# Altium footprint library TAUV-Lib.PcbLib: 56 footprints (part 1 of 4)
Each footprint in its own frame and in the unit in brackets; x right, y up, seen from the top. Pads: shape width x height; smd on the part's side, far side on the other; paste and mask are expansions set on the pad; w line width, h text height; cw(c..) or ccw(c..) is an arc to the next point about the centre after c.
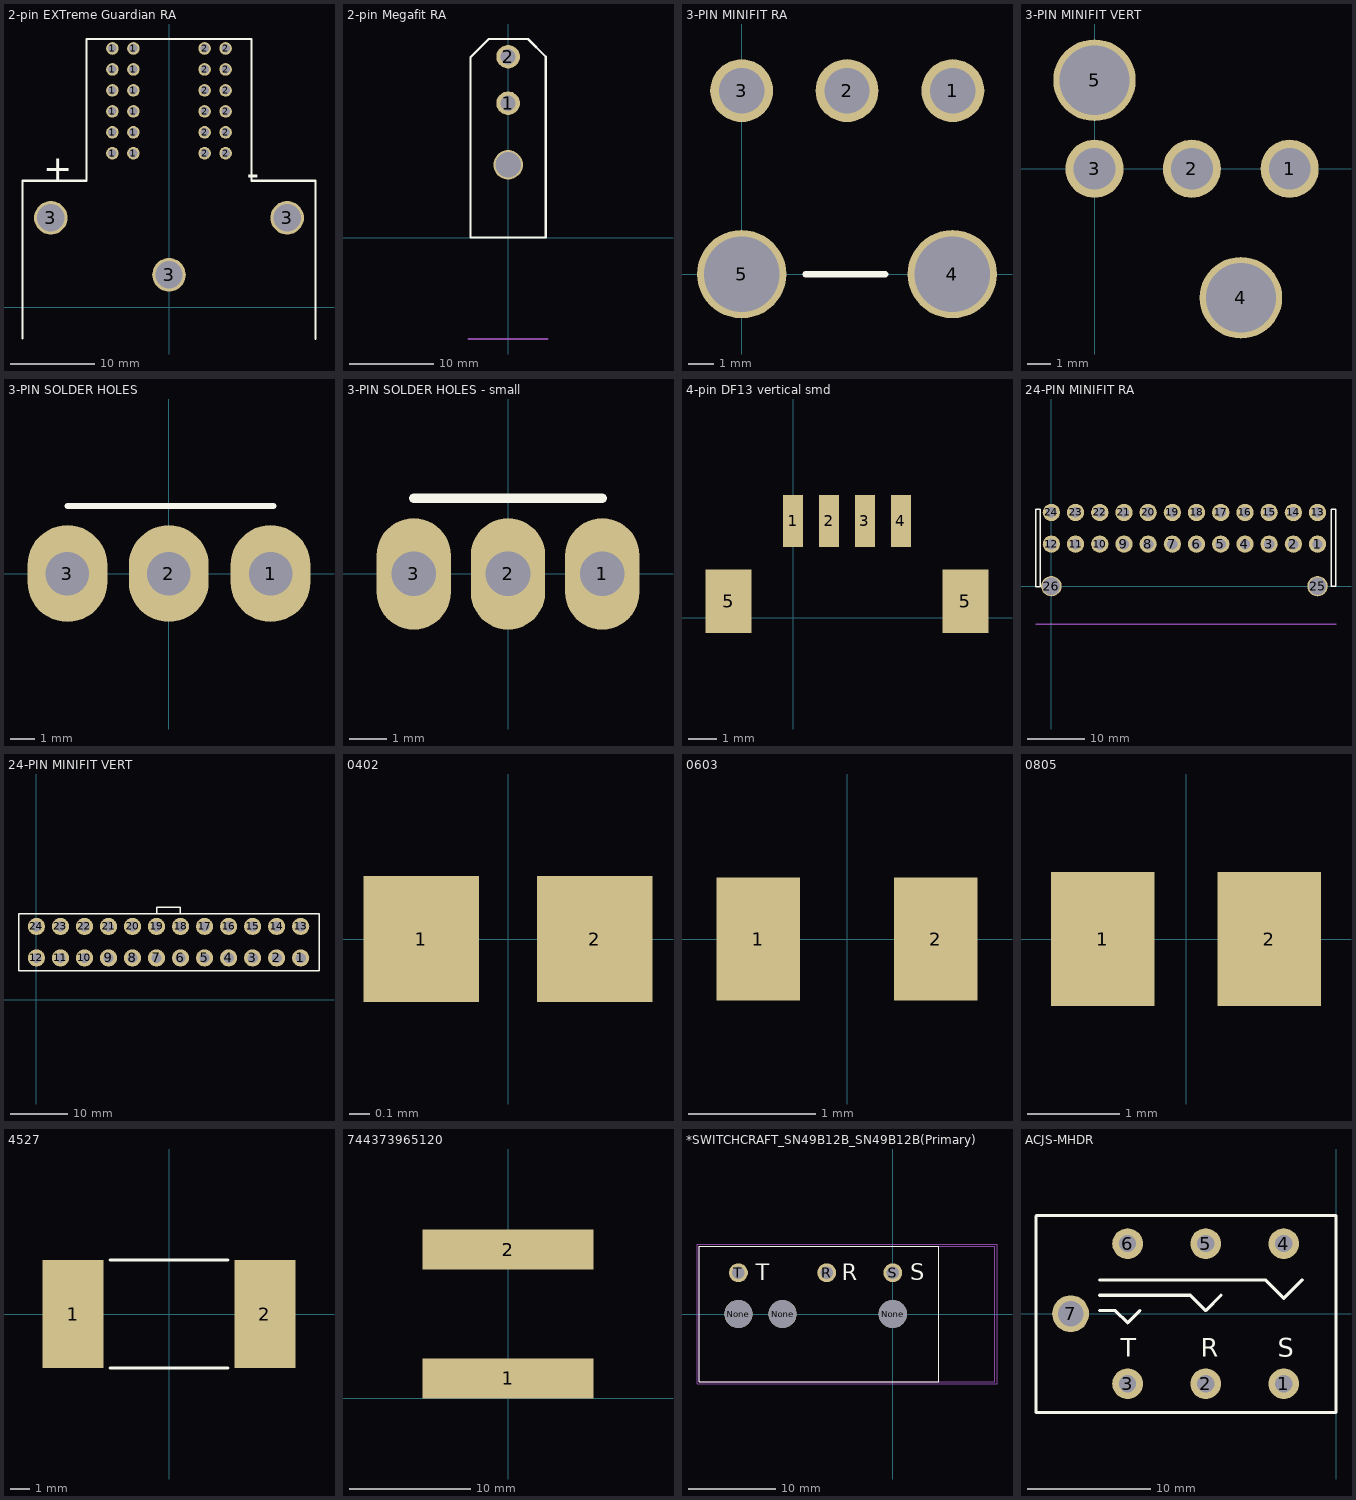
[diagram p0: the footprints below, top view; thin cyan lines are the x and y axes]

## 2-pin EXTreme Guardian RA [mm]
pads (27):
  round 1.5 hole 1.02: 1(-6.75,18.4) 1(-6.75,20.9) 1(-4.25,18.4) 1(-4.25,20.9) 2(4.25,18.4) 2(4.25,20.9) 2(6.75,18.4) 2(6.75,20.9)
  round 1.5 hole 1.02 unplated: 1(-6.75,23.4) 1(-6.75,25.9) 1(-6.75,28.4) 1(-6.75,30.9) 1(-4.25,23.4) 1(-4.25,25.9) 1(-4.25,28.4) 1(-4.25,30.9) 2(4.25,23.4) 2(4.25,25.9) 2(4.25,28.4) 2(4.25,30.9) 2(6.75,23.4) 2(6.75,25.9) 2(6.75,28.4) 2(6.75,30.9)
  round 4 hole 3.25 unplated: 3(-14.1,10.7) 3(0,3.9) 3(14.1,10.7)
Top Overlay:
  lines w0.254: -17.475,-3.708 -17.475,0 -17.475,15.12 -9.85,15.12 -9.85,32.03 9.85,32.03 9.85,15.12 17.475,15.12 17.475,0 17.475,-3.759
  text "+" at -14.989,15.12 h3.05
  text "-" at 9.25,14.5 h3.05
3D body "468171002.stp": height 27.6, standoff -4.06, extent -17.226,-3.8 17.226,31.413

## 2-pin Megafit RA [mm]
pads (3):
  round 2.8 hole 1.8: 1(0,15.9) 2(0,21.4)
  round 3.5 hole 3: ""(0,8.6)
Top Overlay:
  lines w0.254: -4.445,0 4.445,0 4.445,21.4 2.35,23.495 0,23.495 -2.286,23.495 -4.445,21.336 -4.445,0
Mechanical 15:
  lines w0.254: -4.699,-12 4.67,-12
3D body: height 2.06, standoff 0, extent -1.778,12.446 -1.778,12.446
3D body "1716920102.stp": height 16.75, standoff -0.41, extent -4.159,-24.983 4.191,-0.059
3D body "1720640002.stp": height 14.55, standoff -3.58, extent -4.158,-0.059 4.191,21.903

## 3-PIN MINIFIT RA [mm]
pads (5):
  round 2.5 hole 1.8 unplated: 1(8.4,7.3) 2(4.191,7.3) 3(0,7.3)
  oval 3.55x3.5 hole 3 unplated: 4(8.382,0) 5(0,0)
Top Overlay:
  lines w0.254: 2.54,0 5.715,0
3D body "039014031.stp": height 10, standoff -0.2, extent -2.709,-26.776 11.091,-6.176
3D body: height 8.9, standoff -10.7, extent 29.337,-1.905 29.337,-1.905
3D body: height 8.9, standoff -10.7, extent 29.337,-1.905 29.337,-1.905
3D body "039303038.stp": height 7.2, standoff -3.5, extent -2.709,-6.176 11.091,7.874

## 3-PIN MINIFIT VERT [mm]
pads (5):
  round 2.5 hole 1.8 unplated: 1(8.4,0) 2(4.191,0) 3(0,0)
  oval 3.55x3.5 hole 3 unplated: 4(6.3,-5.55) 5(0,3.81)
3D body "039301039.stp": height 12.45, standoff -3.5, extent -2.709,-6.541 11.091,5.017
3D body "039014031.stp": height 32, standoff 11.4, extent -2.709,-4.462 11.091,5.738

## 3-PIN SOLDER HOLES [mm]
pads (3):
  oval 3.3x4 hole 1.8 unplated: 1(4.209,0) 2(0,0) 3(-4.191,0)
Top Overlay:
  lines w0.254: -4.191,2.794 4.318,2.794

## 3-PIN SOLDER HOLES - small [mm]
pads (3):
  oval 2x3 hole 1.2 unplated: 1(2.54,0) 2(0,0) 3(-2.54,0)
Top Overlay:
  lines w0.254: -2.54,2.032 2.54,2.032

## 4-pin DF13 vertical smd [mm]
pads (6):
  rect 0.7x1.8 smd: 1(0,3.37) 2(1.25,3.37) 3(2.5,3.37) 4(3.75,3.37)
  rect 1.6x2.2 smd: 5(-2.25,0.57) 5(6,0.57)
3D body "DF13C-4P-1.25V.stp": height 4.82, standoff 0.02, extent -2.92,-1.09 6.73,3.81

## 24-PIN MINIFIT RA [mm]
pads (26):
  round 3 hole 1.8 unplated: 1(46.2,7.3) 2(42,7.3) 3(37.8,7.3) 4(33.6,7.3) 5(29.4,7.3) 6(25.2,7.3) 7(21,7.3) 8(16.8,7.3) 9(12.6,7.3) 10(8.4,7.3) 11(4.2,7.3) 12(0,7.3) 13(46.2,12.8) 14(42,12.8) 15(37.8,12.8) 16(33.6,12.8) 17(29.4,12.8) 18(25.2,12.8) 19(21,12.8) 20(16.8,12.8) 21(12.6,12.8) 22(8.4,12.8) 23(4.2,12.8) 24(0,12.8)
  oval 3.55x3.5 hole 3 unplated: 25(46.2,0) 26(0,0)
Top Overlay:
  lines w0.254: -2.667,-0.059 -2.667,13.335 -1.902,13.335 -1.902,-0.059 -2.667,-0.059 ; 48.576,-0.005 49.341,-0.005 49.341,13.388 48.576,13.388 48.576,-0.005
Mechanical 7:
  lines w0.254: -2.667,-6.604 49.403,-6.604
3D body "039012245.stp": height 14.1, standoff -0.3, extent -2.501,-26.164 49.099,-6.564
3D body "039300240.stp": height 11.4, standoff -3.6, extent -2.672,-6.559 49.328,13.376

## 24-PIN MINIFIT VERT [mm]
pads (24):
  round 3 hole 1.8 unplated: 1(46.2,7.3) 2(42,7.3) 3(37.8,7.3) 4(33.6,7.3) 5(29.4,7.3) 6(25.2,7.3) 7(21,7.3) 8(16.8,7.3) 9(12.6,7.3) 10(8.4,7.3) 11(4.2,7.3) 12(0,7.3) 13(46.2,12.8) 14(42,12.8) 15(37.8,12.8) 16(33.6,12.8) 17(29.4,12.8) 18(25.2,12.8) 19(21,12.8) 20(16.8,12.8) 21(12.6,12.8) 22(8.4,12.8) 23(4.2,12.8) 24(0,12.8)
Top Overlay:
  lines w0.254: 21,14.986 21,16.129 25.146,16.129 25.146,14.986 ; -3.048,5.08 49.403,5.08 49.403,14.986 -3.048,14.986 -3.048,5.08
3D body "039281243.stp": height 12.8, standoff -3.5, extent -2.959,5.106 49.441,16.106
3D body "039012245.stp": height 32.7, standoff 13.1, extent -2.559,4.106 49.041,18.506

## 0402 [mil]
pads (2):
  rect 22x24 smd: 1(-16.5,0) 2(16.5,0)
3D body: height 10, standoff 0, extent 0,0 10,10

## 0603 [mil]
pads (2):
  rect 26x38 smd: 1(-27.5,0) 2(27.5,0)
3D body: height 10, standoff 0, extent 0,0 10,10

## 0805 [mil]
pads (2):
  rect 44x57 smd: 1(-35.5,0) 2(35.5,0)
3D body: height 10, standoff 0, extent 0,0 10,10

## 4527 [mil]
pads (2):
  rect 124x220 smd: 1(-195.5,0) 2(195.5,0)
Top Overlay:
  lines w6: -120.4,-110 120.4,-110 ; -120.4,110 120.4,110
3D body: height 10, standoff 0, extent 0,0 10,10

## 744373965120 [mm]
pads (2):
  rect 14.1x3.3 smd paste+0 mask+0: 1(0,1.65) 2(0,12.25)
3D body "STEP-WE-XHMI-1510-rev1.stp": height 10, standoff 0, extent -8.2,-0.7 8.2,14.7

## *SWITCHCRAFT_SN49B12B_SN49B12B(Primary) [mil]
pads (6):
  round 128 hole 128 unplated: None(-700,0) None(-500,0) None(0,0)
  round 85.5 hole 57: R(-300,187) S(0,187) T(-700,187)
Top Overlay:
  lines w5: -878,-307.5 -878,307.5 208,307.5 208,-307.5 -878,-307.5
  text "T" at -621.26,153.15 h73.82
  text "R" at -231.1,153.15 h73.82
  text "S" at 78.74,153.15 h73.82
Mechanical 4:
  lines w5: -878,-307.5 208,-307.5 ; -878,-307.5 -878,307.5 ; -878,-307.5 208,-307.5 ; -878,-307.5 -878,307.5 ; -878,307.5 208,307.5 ; -878,307.5 208,307.5 ; 208,-307.5 462,-307.5 ; 208,-307.5 208,307.5 ; 208,-307.5 462,-307.5 ; 208,-307.5 208,307.5 ; 208,307.5 462,307.5 ; 208,307.5 462,307.5 ; 462,-307.5 462,307.5 ; 462,-307.5 462,307.5
  text "T" at -621.26,153.15 h73.82
  text "R" at -231.1,153.15 h73.82
  text "S" at 78.74,153.15 h73.82
  text "T" at -621.26,153.15 h73.82
  text "R" at -231.1,153.15 h73.82
  text "S" at 78.74,153.15 h73.82
Mechanical 16:
  lines w1.97: -887.84,-317.34 472.44,-317.34 472.44,317.34 -887.84,317.34 -887.84,-317.34

## ACJS-MHDR [mm]
pads (7):
  round 2.5 hole 1.4: 1(-4.25,-5.7) 2(-10.6,-5.7) 3(-16.95,-5.7) 4(-4.25,5.7) 5(-10.6,5.7) 6(-16.95,5.7)
  round 3 hole 2.1: 7(-21.58,0)
Top Overlay:
  lines w0.254: -19.25,0.25 -18,0.25 ; -19.25,1.5 -18,1.5 -11.85,1.5 -10.6,0.25 -9.35,1.5 ; -19.25,2.75 -18,2.75 -5.75,2.75 -4.25,1.25 -2.75,2.75 ; -17.95,0.25 -16.95,-0.75 -15.95,0.25 ; -24.4,-8.05 -24.4,7.95 -24.35,8 0,8 0,-8.05 -24.4,-8.05
  text "S" at -4.75,-3.5 h1.52
  text "R" at -11,-3.5 h1.52
  text "T" at -17.5,-3.5 h1.52
3D body "ACJS-MHDR.stp": height 15.42, standoff -4.25, extent -24.4,-8.675 9.1,8.675